# EAGLE library part 0532611271 (library picoblade)
Conn Shrouded Header HDR 12 POS 1.25mm Solder RA SMD PicoBlade
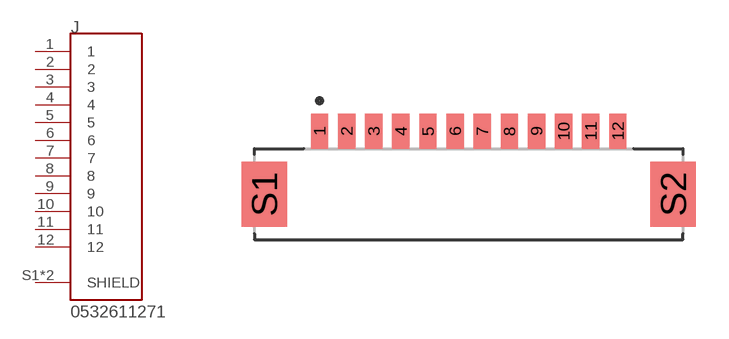
[diagram p0: symbol with the pads of MOLEX_0532611271; footprint MOLEX_0532611271]

Designator prefix J

## 0532611271 (Availability: Unavailable; Description: Picoblade Connector, 12 Circuit Single Row, Right Angle Surface Mount SMT PCB; MF: Molex; MP: 0532611271; Package: None; Price: None)  [MOLEX_0532611271]
1  1  pas
2  2  pas
3  3  pas
4  4  pas
5  5  pas
6  6  pas
7  7  pas
8  8  pas
9  9  pas
10  10  pas
11  11  pas
12  12  pas
S1  SHIELD  pas
S2  SHIELD  pas

## Footprint MOLEX_0532611271 (pad centres in mm)
smd 0.8 x 1.6: 1 -6.875,2.9; 2 -5.625,2.9; 3 -4.375,2.9; 4 -3.125,2.9; 5 -1.875,2.9; 6 -0.625,2.9; 7 0.625,2.9; 8 1.875,2.9; 9 3.125,2.9; 10 4.375,2.9; 11 5.625,2.9; 12 6.875,2.9
smd 2.1 x 3: S1 -9.425,0; S2 9.425,0